# Altium footprint library Synthiam.PcbLib: 481 footprints (part 25 of 31)
Each footprint in its own frame and in the unit in brackets; x right, y up, seen from the top. Pads: shape width x height; smd on the part's side, far side on the other; paste and mask are expansions set on the pad; w line width, h text height; cw(c..) or ccw(c..) is an arc to the next point about the centre after c.
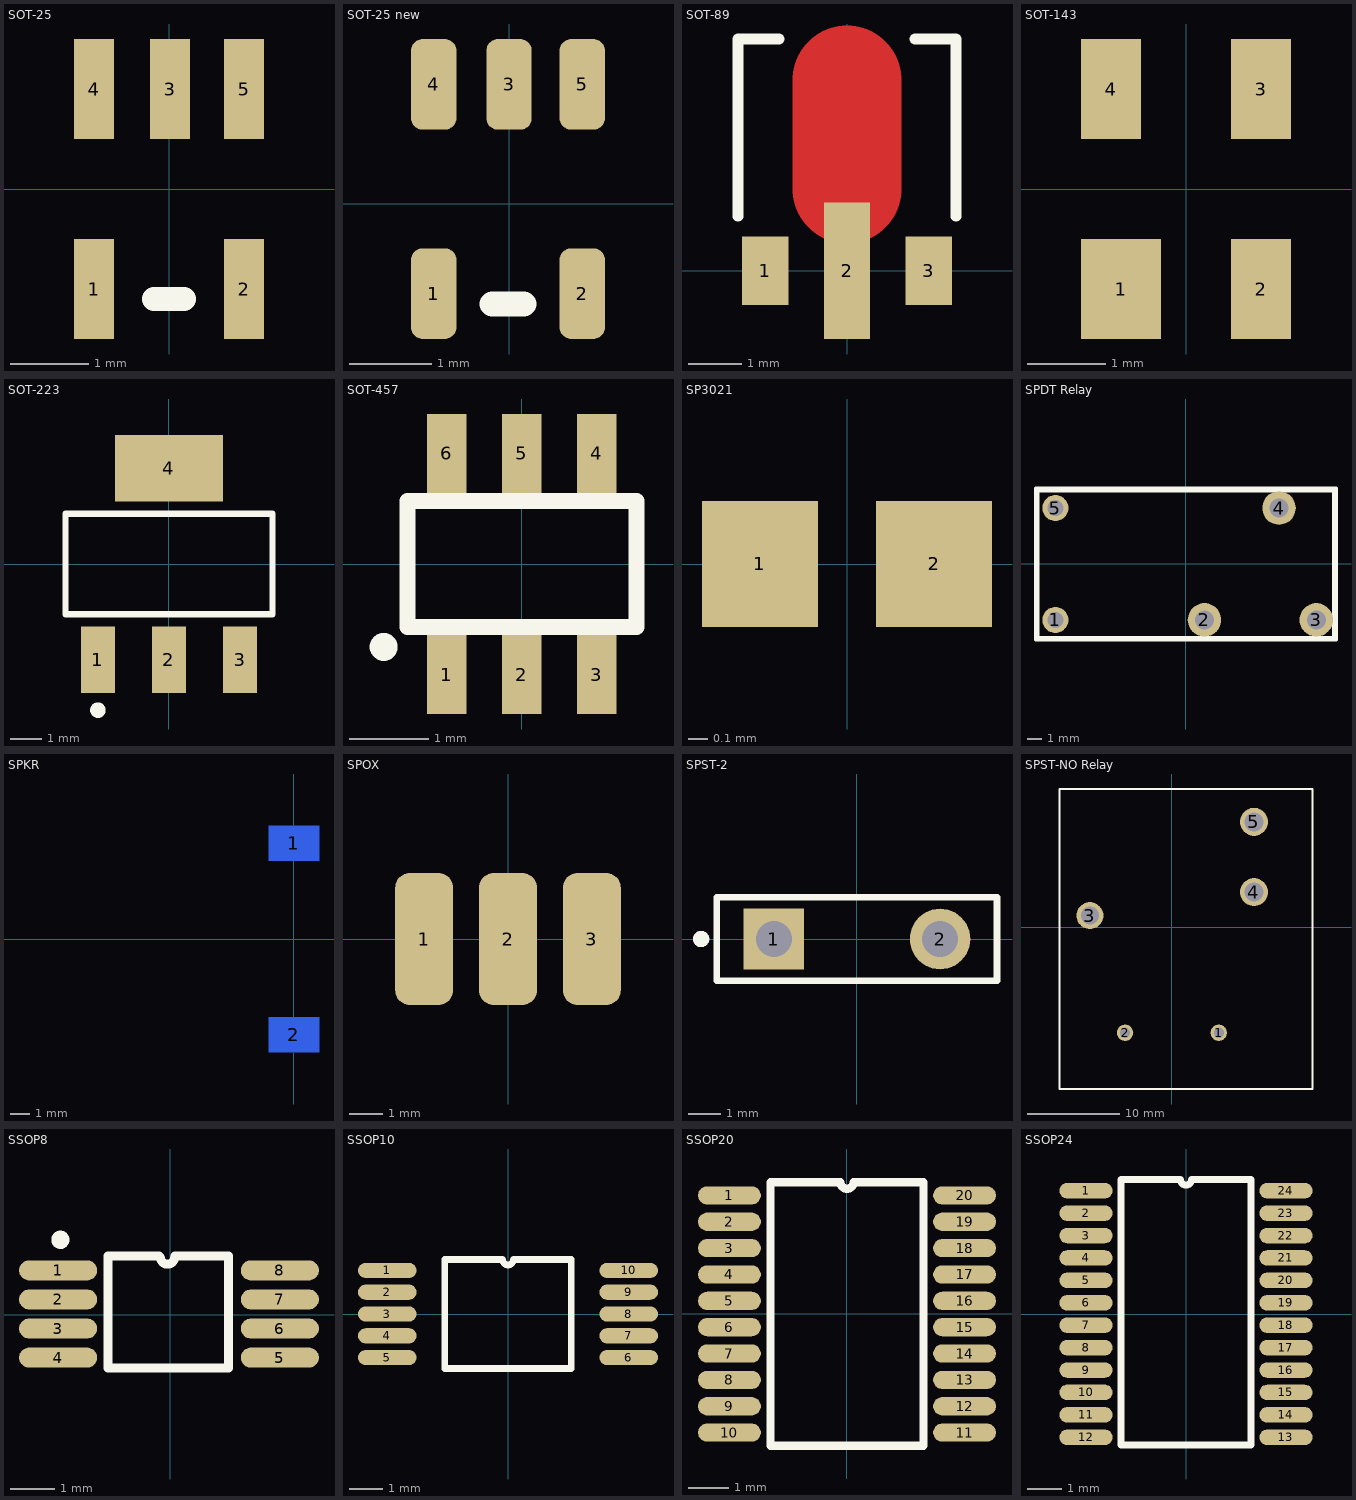
[diagram p24: the footprints below, top view; thin cyan lines are the x and y axes]

## SOT-25 [mil]
pads (5):
  rect 20x50 smd: 1(-37.5,-50) 2(37.5,-50) 3(0.5,50) 4(-37.5,50) 5(37.5,50)
Top Overlay:
  lines w12: -7.5,-55 7.5,-55

## SOT-25 new [mm]
pads (5):
  rrect50% 0.55x1.1 smd: 1(-0.914,-1.092) 2(0.889,-1.092) 3(0,1.448) 4(-0.914,1.448) 5(0.889,1.448)
Top Overlay:
  lines w0.305: -0.203,-1.219 0.178,-1.219

## SOT-89 [mil]
pads (3):
  rect 34x50 smd: 1(-60,0) 3(60,0)
  rect 34x100 smd: 2(0,0)
Top Layer:
  lines w80: 0,60 0,140
Top Overlay:
  lines w8: -80,40 -80,170 -50,170 ; 50,170 80,170 80,40

## SOT-143 [mil]
pads (4):
  rect 40x50 smd: 1(-32.5,-50)
  rect 30x50 smd: 2(37.5,-50) 3(37.5,50) 4(-37.5,50)

## SOT-223 [mm]
pads (4):
  rect 1.1x2.15 smd: 1(-2.3,-3.1) 2(0,-3.1) 3(2.3,-3.1)
  rect 3.5x2.15 smd: 4(0,3.1)
Top Overlay:
  circle w0.25: c-2.3,-4.725 r0.125
  lines w0.2: -3.35,-1.625 -3.35,1.625 3.35,1.625 3.35,-1.625 -3.35,-1.625

## SOT-457 [mm]
pads (6):
  rect 0.5x1 smd: 1(-0.95,-1.4) 2(0,-1.4) 3(0.95,-1.4) 4(0.95,1.4) 5(0,1.4) 6(-0.95,1.4)
Top Overlay:
  circle w0.254: c-1.75,-1.05 r0.05
  lines w0.203: -1.45,-0.8 -1.45,0.8 1.45,0.8 1.45,-0.8 -1.45,-0.8

## SP3021 [mm]
pads (2):
  rect 0.6x0.65 smd: 1(-0.45,0) 2(0.45,0)

## SPDT Relay [mil]
pads (5):
  round 70 hole 43.31: 1(-350,-150.07) 5(-350,149.93)
  round 90 hole 51.18: 2(50,-149.93) 3(350,-149.93) 4(250,150.07)
Top Overlay:
  lines w8: -396,196.78 -396,-196.93 396.91,-196.93
  lines w10: -396,196.78 396.91,196.78 396.91,-196.93 ; -401.91,-202.83 -401.91,202.68 402.82,202.68 402.82,-202.83 -401.91,-202.83

## SPKR [mm]
pads (2):
  rect 2.6x1.8 smd far side: 1(0,4.953) 2(0,-4.953)
Bottom Overlay:
  lines w0.254: -1.524,-5.334 -14.224,-5.334 -14.224,5.461 -1.524,5.461 ; 0.762,-3.81 0.762,3.835

## SPOX [mm]
pads (3):
  rrect50% 1.75x4 smd: 1(-2.54,0) 2(0,0) 3(2.54,0)

## SPST-2 [mm] "Switch; 2 Leads"
pads (2):
  rect 1.85x1.85 hole 1.1: 1(-2.54,0)
  round 1.85 hole 1.1: 2(2.54,0)
Top Overlay:
  circle w0.25: c-4.761,-0.001 r0.125
  lines w0.2: -4.28,-1.27 4.28,-1.27 4.28,1.27 -4.28,1.27 -4.28,-1.27

## SPST-NO Relay [mil]
pads (5):
  round 70 hole 43: 1(200,-450) 2(-200,-450)
  round 115 hole 78: 3(-350,50)
  round 120 hole 81: 4(350,150) 5(350,450)
Top Overlay:
  lines w8: -480,-690 -480,590 600,590 600,-690 -480,-690

## SSOP8 [mm]
pads (8):
  oval 1.75x0.45 smd: 1(-2.515,0.991) 2(-2.515,0.341) 3(-2.515,-0.309) 4(-2.515,-0.959) 5(2.45,-0.959) 6(2.45,-0.309) 7(2.45,0.341) 8(2.45,0.991)
Top Overlay:
  circle w0.254: c-2.464,1.676 r0.076
  lines w0.2: -0.254,1.316 -1.397,1.316 -1.397,-1.194 1.295,-1.194 1.295,1.316 0.102,1.316 ; -0.229,1.295 ccw(c-0.066,1.295) 0.096,1.295

## SSOP10 [mm]
pads (10):
  oval 1.75x0.45 smd: 1(-3.6,1.3) 2(-3.6,0.65) 3(-3.6,0) 4(-3.6,-0.65) 5(-3.6,-1.3) 6(3.6,-1.3) 7(3.6,-0.65) 8(3.6,0) 9(3.6,0.65) 10(3.6,1.3)
Top Overlay:
  lines w0.2: -1.89,-1.625 -1.89,1.625 -0.162,1.625 ccw(c0,1.625) 0.162,1.625 1.89,1.625 1.89,-1.625 -1.89,-1.625

## SSOP20 [mm]
pads (20):
  oval 1.55x0.45 smd: 1(-2.89,2.925) 2(-2.89,2.275) 3(-2.89,1.625) 4(-2.89,0.975) 5(-2.89,0.325) 6(-2.89,-0.325) 7(-2.89,-0.975) 8(-2.89,-1.625) 9(-2.89,-2.275) 10(-2.89,-2.925) 11(2.91,-2.925) 12(2.91,-2.275) 13(2.91,-1.625) 14(2.91,-0.975) 15(2.91,-0.325) 16(2.91,0.325) 17(2.91,0.975) 18(2.91,1.625) 19(2.91,2.275) 20(2.91,2.925)
Top Overlay:
  lines w0.2: -1.88,-3.25 -1.88,3.25 -0.152,3.25 ccw(c0.01,3.25) 0.173,3.25 1.9,3.25 1.9,-3.25 -1.88,-3.25

## SSOP24 [mm]
pads (24):
  oval 1.55x0.45 smd: 1(-2.9,3.575) 2(-2.9,2.925) 3(-2.9,2.275) 4(-2.9,1.625) 5(-2.9,0.975) 6(-2.9,0.325) 7(-2.9,-0.325) 8(-2.9,-0.975) 9(-2.9,-1.625) 10(-2.9,-2.275) 11(-2.9,-2.925) 12(-2.9,-3.575) 13(2.9,-3.575) 14(2.9,-2.925) 15(2.9,-2.275) 16(2.9,-1.625) 17(2.9,-0.975) 18(2.9,-0.325) 19(2.9,0.325) 20(2.9,0.975) 21(2.9,1.625) 22(2.9,2.275) 23(2.9,2.925) 24(2.9,3.575)
Top Overlay:
  lines w0.2: -1.89,-3.805 1.89,-3.805 1.89,3.9 0.162,3.9 cw(c0,3.9) -0.162,3.9 -1.89,3.9 -1.89,-3.805